# Altium schematic symbol library 2005Parts.SCHLIB: 11 symbols
Pins are listed as number, name and electrical type; pins without a type are passive.

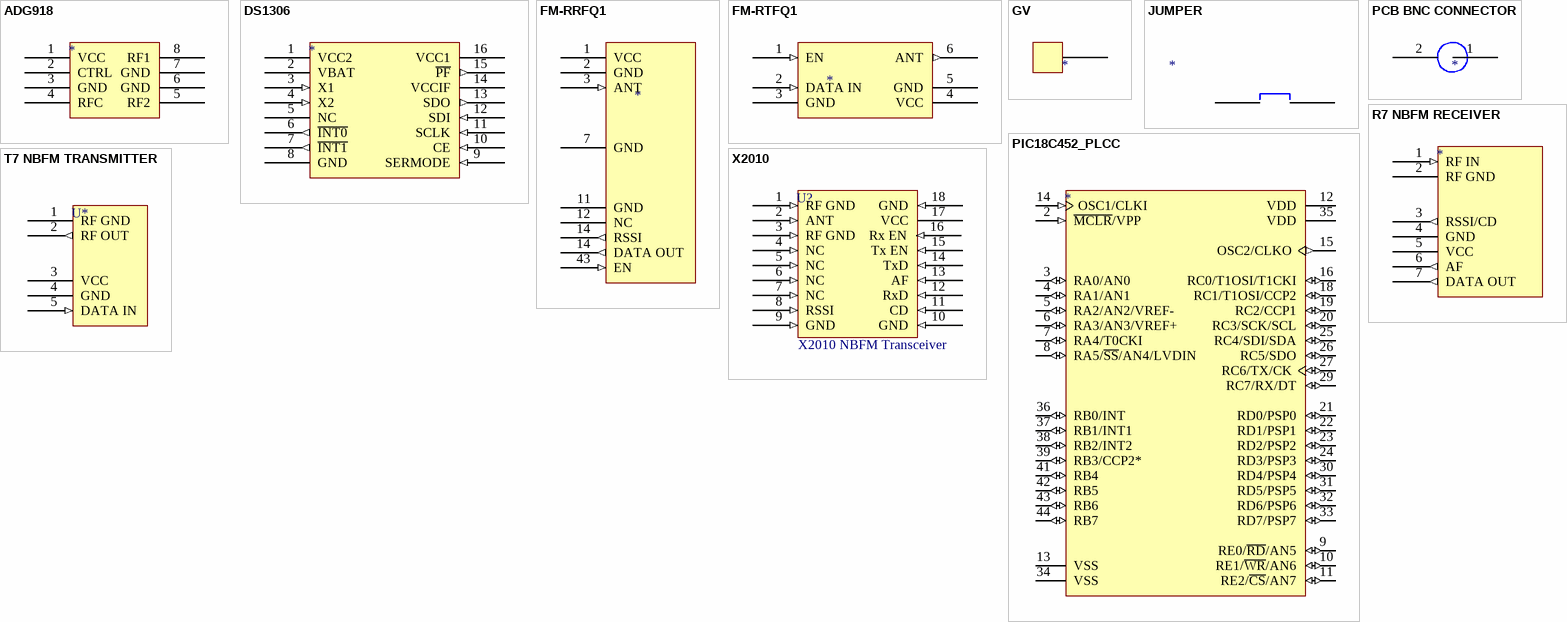
[diagram p0: symbols ADG918 to X2010]

## ADG918
designator *
pins: 1 VCC, 2 CTRL, 3 GND, 4 RFC, 5 RF2, 6 GND, 7 GND, 8 RF1

## DS1306
designator *
footprint DIP-16
pins: 1 VCC2 (power), 2 VBAT (power), 3 X1 (in), 4 X2 (in), 5 NC, 6 ~{INT0} (out), 7 ~{INT1} (out), 8 GND (power), 9 SERMODE (in), 10 CE (in), 11 SCLK (in), 12 SDI (in), 13 SDO (out), 14 VCCIF (power), 15 ~{PF} (out), 16 VCC1 (power)

## FM-RRFQ1
designator *
footprint FM-RRFQ1
pins: 1 VCC (power), 2 GND (power), 3 ANT (in), 7 GND (power), 11 GND (power), 12 NC, 14 RSSI (out), 14 DATA OUT (out), 43 EN (in)

## FM-RTFQ1
designator *
footprint FM-RTFQ1
pins: 1 EN (in), 2 DATA IN (in), 3 GND (power), 4 VCC (power), 5 GND (power), 6 ANT (out)

## GV
designator *
footprint GROUNDVIA
pins: 1 9

## JUMPER
designator *
footprint PCBComponent_1
pins: 1, 2

## PCB BNC CONNECTOR
designator *
footprint PCB BNC Connector
pins: 1, 2

## PIC18C452_PLCC
designator *
footprint PLCC 44-Way IC Socket
pins: 2 ~{MCLR}/VPP (in), 3 RA0/AN0 (io), 4 RA1/AN1 (io), 5 RA2/AN2/VREF- (io), 6 RA3/AN3/VREF+ (io), 7 RA4/T0CKI (io), 8 RA5/~{SS}/AN4/LVDIN (io), 9 RE0/~{RD}/AN5 (io), 10 RE1/~{WR}/AN6 (io), 11 RE2/~{CS}/AN7 (io), 12 VDD (power), 13 VSS (power), 14 OSC1/CLKI (in), 15 OSC2/CLKO (out), 16 RC0/T1OSI/T1CKI (io), 18 RC1/T1OSI/CCP2 (io), 19 RC2/CCP1 (io), 20 RC3/SCK/SCL (io), 21 RD0/PSP0 (io), 22 RD1/PSP1 (io), 23 RD2/PSP2 (io), 24 RD3/PSP3 (io), 25 RC4/SDI/SDA (io), 26 RC5/SDO (io), 27 RC6/TX/CK (io), 29 RC7/RX/DT (io), 30 RD4/PSP4 (io), 31 RD5/PSP5 (io), 32 RD6/PSP6 (io), 33 RD7/PSP7 (io), 34 VSS (power), 35 VDD (power), 36 RB0/INT (io), 37 RB1/INT1 (io), 38 RB2/INT2 (io), 39 RB3/CCP2* (io), 41 RB4 (io), 42 RB5 (io), 43 RB6 (io), 44 RB7 (io)

## R7 NBFM RECEIVER
designator *
footprint R7 NBFM RECEIVER
pins: 1 RF IN (in), 2 RF GND (power), 3 RSSI/CD (out), 4 GND (power), 5 VCC (power), 6 AF (out), 7 DATA OUT (out)

## T7 NBFM TRANSMITTER
designator U*
footprint T7 NBFM TRANSMITTER
pins: 1 RF GND (power), 2 RF OUT (out), 3 VCC (power), 4 GND (power), 5 DATA IN (in)

## X2010
designator U?, comment X2010 NBFM Transceiver
footprint X2010
pins: 1 RF GND (in), 2 ANT (in), 3 RF GND (in), 4 NC (in), 5 NC (in), 6 NC (in), 7 NC (in), 8 RSSI (in), 9 GND (in), 10 GND (in), 11 CD (in), 12 RxD (in), 13 AF (in), 14 TxD (in), 15 Tx EN (in), 16 Rx EN (in), 17 VCC (power), 18 GND (in)